# Altium footprint library lcd_ex.PcbLib: 2 footprints
Each footprint in its own frame and in the unit in brackets; x right, y up, seen from the top. Pads: shape width x height; smd on the part's side, far side on the other; paste and mask are expansions set on the pad; w line width, h text height; cw(c..) or ccw(c..) is an arc to the next point about the centre after c.
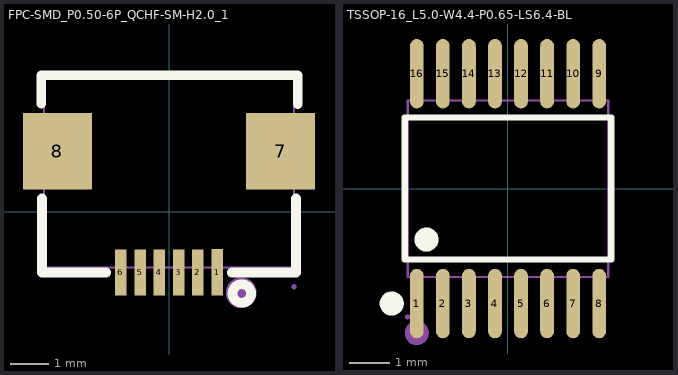
[diagram p0: the footprints below, top view; thin cyan lines are the x and y axes]

## FPC-SMD_P0.50-6P_QCHF-SM-H2.0_1 [mm]
pads (8):
  rect 0.3x1.2 smd paste+0.051 mask+0: 1(1.25,-1.573) 2(0.75,-1.575) 3(0.25,-1.575) 4(-0.25,-1.575) 5(-0.75,-1.575) 6(-1.25,-1.575)
  rect 1.8x2 smd paste+0.051 mask+0: 7(2.9,1.575) 8(-2.9,1.575)
Top Overlay:
  circle w0.254: c1.892,-2.125 r0.24
  lines w0.254: -3.32,2.806 -3.32,3.55 ; -3.3,0.344 -3.3,-1.575 -1.631,-1.575 ; -3.25,3.55 3.35,3.55 3.35,2.8 ; 1.631,-1.575 3.3,-1.575 3.3,0.344
Mechanical 2:
  circle w0.4: c1.878,-2.105 r0.2
Mechanical 6:
  lines w0.051: -3.25,-1.45 3.25,-1.45 3.25,3.45 -3.25,3.45 -3.25,-1.45
Mechanical 8:
  region: 3.31,-1.95 3.31,-1.975 3.275,-2.01 3.225,-2.01 3.19,-1.975 3.19,-1.95 3.19,-1.925 3.225,-1.89 3.275,-1.89 3.31,-1.925 3.31,-1.95
Mechanical 9:
  region: -3.25,0.765 -3.25,2.265 -2.1,2.265 -2.1,0.765
  region: 2.1,0.75 2.1,2.25 3.25,2.25 3.25,0.75
  region: 1.325,-1.95 1.175,-1.95 1.175,-1.05 1.325,-1.05
  region: 0.825,-1.95 0.675,-1.95 0.675,-1.05 0.825,-1.05
  region: 0.325,-1.95 0.175,-1.95 0.175,-1.05 0.325,-1.05
  region: -0.175,-1.95 -0.325,-1.95 -0.325,-1.05 -0.175,-1.05
  region: -0.675,-1.95 -0.825,-1.95 -0.825,-1.05 -0.675,-1.05
  region: -1.175,-1.95 -1.325,-1.95 -1.325,-1.05 -1.175,-1.05

## TSSOP-16_L5.0-W4.4-P0.65-LS6.4-BL [mm]
pads (16):
  oval 0.343x1.731 smd: 1(-2.275,-2.866) 2(-1.625,-2.866) 3(-0.975,-2.866) 4(-0.325,-2.866) 5(0.325,-2.866) 6(0.975,-2.866) 7(1.625,-2.866) 8(2.275,-2.866) 9(2.275,2.866) 10(1.625,2.866) 11(0.975,2.866) 12(0.325,2.866) 13(-0.325,2.866) 14(-0.975,2.866) 15(-1.625,2.866) 16(-2.275,2.866)
Top Overlay:
  circle w0.3: c-2.899,-2.866 r0.15
  circle w0.3: c-2.032,-1.27 r0.15
  lines w0.152: -2.576,-1.771 2.576,-1.771 2.576,1.772 -2.576,1.772 -2.576,-1.771
Mechanical 6:
  circle w0.3: c-2.275,-3.6 r0.15
Mechanical 15:
  drawing of 37 lines, arcs and shapes, not listed